# Altium schematic symbol library 694106301002.SchLib: 1 symbol
Pins are listed as number, name and electrical type; pins without a type are passive.

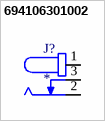
[diagram p0: symbol 694106301002]

## 694106301002
designator J?
<b> WR-DC DC Power Jack Right Angled (6.4) <br> <br> KIND PROPERTIES  <br><br> </b>Quality Class 5 000 Mating cycles  <br>Type Right Angled  <br> <br> <b>MATERIAL PROPERTIES  <br><br> </b>Insulator Material PA66  <br>Insulator Flammability Rating UL94 V-0  <br>Color Black  <br>Contact Material Copper Alloy  <br>Contact Type Stamped  <br>Center Pin Plating Gold  <br>Center Pin Terminal Plating Tin  <br>Tip Spring Material Tin  <br>Shunt Terminal Plating Tin  <br><br> <b>GENERAL INFORMATION  <br><br> </b>Operating Temperature -40 up to +85 Â°C  <br>Compliance RoHS  <br> <br> <b>ELECTRICAL PROPERTIES  <br><br> </b>IR 1 5 A  <br>Working Voltage 30 V (AC)  <br>Withstanding Voltage 500 V (AC)  <br>Contact Resistance 50 mÎ©  <br>RISO 100 MÎ©  <br> <br> <b>PACKAGING PROPERTIES  <br><br> </b>Packaging Bag  <br> <br> <br><a href="https://www.we-online.com/catalog/media/o59009v209%20Family_WR-DC_DC_Power_Jack_Right_Angled_THT_69410x301002.jpg" title="Enlarge picture"> <img src="https://www.we-online.com/catalog/media/o59009v209%20Family_WR-DC_DC_Power_Jack_Right_Angled_THT_69410x301002.jpg" width="320"></a><p> Details see: <a href="https://www.we-online.com/catalog/en/DC_RIGHT_ANGLED_6_4_69410X301002">https://www.we-online.com/catalog/en/DC_RIGHT_ANGLED_6_4_69410X301002</a><p> </b>Updated by Ella Wu  2021-09-30<br> </b>2021(C) Wurth Elektronik; MF: {'manufacturer': u'Wurth Elektronik'}; MP: 694106301002; Package: None; Price: None; Value: *; Availability: Unavailable
footprint 694106301002
pins: 1, 2, 3